# Altium integrated library Oscillators - Crystals.IntLib: 746 symbols (part 15 of 17)
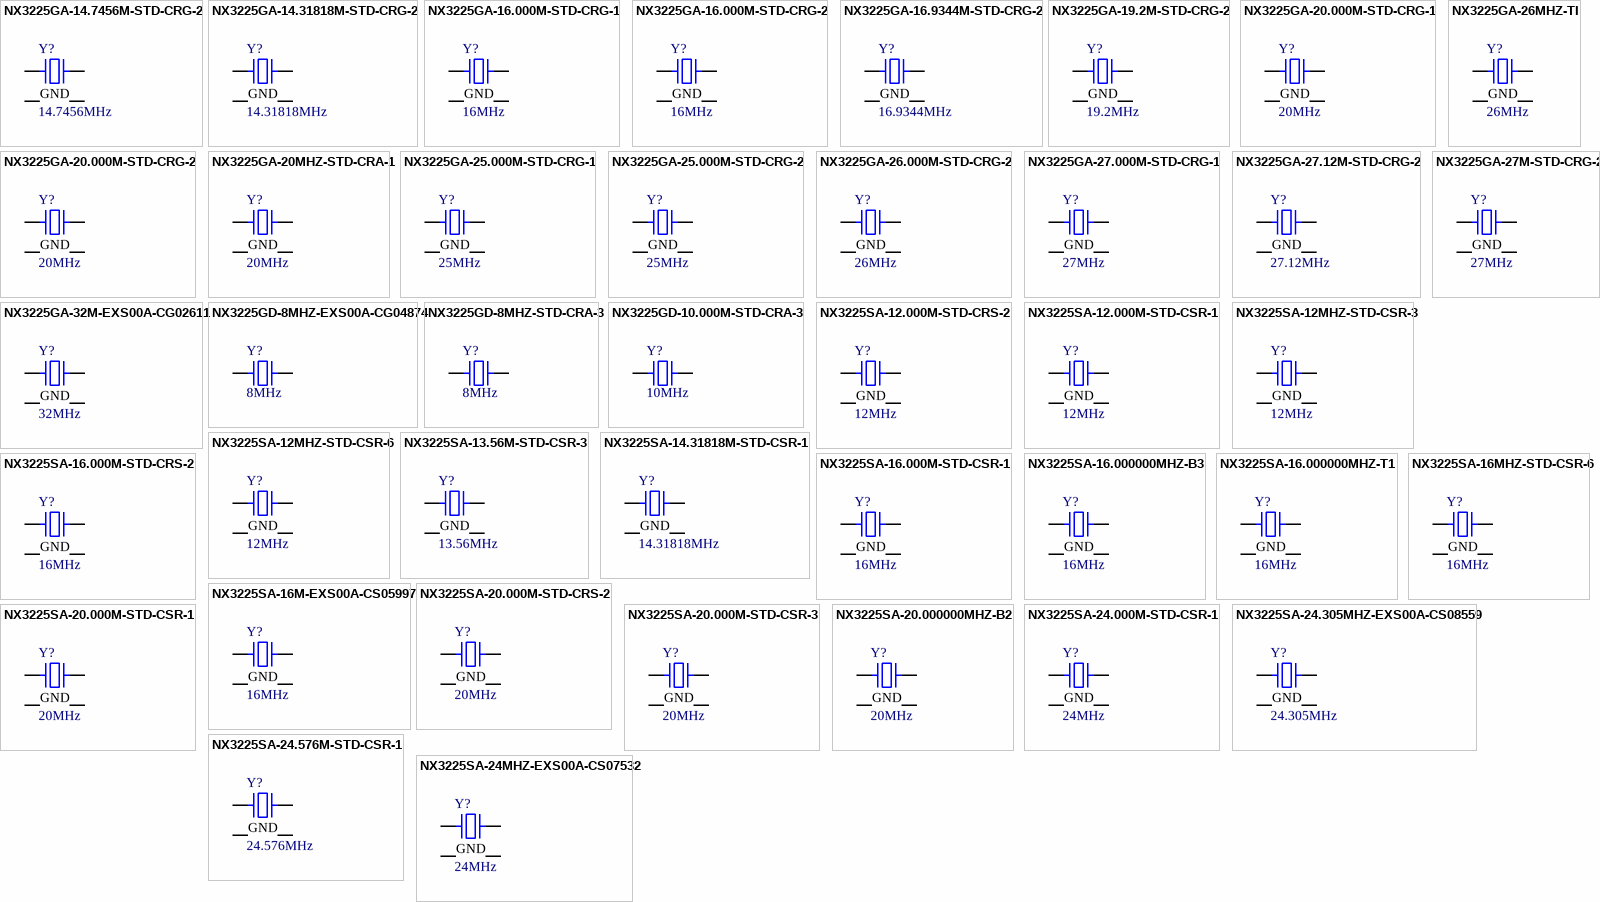
[diagram p32: symbols NX3225GA-14.7456M-STD-CRG-2 to NX3225SA-24MHZ-EXS00A-CS07532]

## NX3225SA-20.000M-STD-CSR-3
designator Y?, comment 20MHz
CRYSTAL 20.0000MHZ 8PF SMD; Part Number: NX3225SA-20.000M-STD-CSR-3; Manufacturer: NDK America, Inc.; ESR (Equivalent Series Resistance): 50 Ohms; Frequency Stability: ±15ppm; Operating Mode: Fundamental; ComponentLink1Description: Datasheet; ComponentLink1URL: //media.digikey.com/pdf/Data%20Sheets/NDK%20PDFs/NX3225SA_STD-CSR-3.pdf; ComponentLink2Description: DigiKey Link; ComponentLink2URL: http://digikey.com/product-detail/en/ndk-america-inc/NX3225SA-20.000M-STD-CSR-3/644-1265-1-ND/5022997; Frequency: 20MHz; Frequency Tolerance: ±15ppm; Height - Seated (Max): 0.024" (0.60mm); LastUpdated: 9/2/2020 1:21:59 AM; Lifecycle Status: Active; Load Capacitance: 8pF; Minimum Order: 1; Mounting Type: Surface Mount; Operating Temperature: -10°C ~ 75°C; Package / Case: 4-SMD, No Lead; Packaging: TapeAndReel; PartId: 563; Part Status: Active; Price: 0.38; Series: NX3225SA; Size / Dimension: 0.126" L x 0.098" W (3.20mm x 2.50mm); Supplier 1: DigiKey; Supplier Part Number 1: 644-1265-1-ND; Type: MHz Crystal; Value: 20MHz
footprint NDK NX3225SA
pins: 1, 2 GND, 3, 4 GND

## NX3225SA-20.000000MHZ-B2
designator Y?, comment 20MHz
CRYSTAL 20.0000MHZ 7.2PF SMD; Part Number: NX3225SA-20.000000MHZ-B2; Manufacturer: NDK America, Inc.; ESR (Equivalent Series Resistance): 80 Ohms; Frequency Stability: ±15ppm; Frequency Tolerance: ±10ppm; Operating Mode: Fundamental; ComponentLink1Description: Datasheet; ComponentLink1URL: //media.digikey.com/pdf/Data Sheets/NDK PDFs/NX3225SA-20.000000MHz-B2.pdf; ComponentLink2Description: DigiKey Link; ComponentLink2URL: http://digikey.com/product-detail/en/ndk-america-inc/NX3225SA-20.000000MHZ-B2/644-1098-1-ND/1468359; Frequency: 20MHz; Height - Seated (Max): 0.028" (0.70mm); LastUpdated: 9/2/2020 1:21:59 AM; Lifecycle Status: Active; Load Capacitance: 7.2pF; Minimum Order: 1; Mounting Type: Surface Mount; Operating Temperature: -30°C ~ 85°C; Package / Case: 4-SMD, No Lead; Packaging: TapeAndReel; PartId: 594; Part Status: Active; Price: 0.47; Series: NX3225SA; Size / Dimension: 0.126" L x 0.098" W (3.20mm x 2.50mm); Supplier 1: DigiKey; Supplier Part Number 1: 644-1098-1-ND; Type: MHz Crystal; Value: 20MHz
footprint NDK NX3225SA
pins: 1, 2 GND, 3, 4 GND

## NX3225SA-24.000M-STD-CSR-1
designator Y?, comment 24MHz
CRYSTAL 24.0000MHZ 8PF SMD; Part Number: NX3225SA-24.000M-STD-CSR-1; Manufacturer: NDK America, Inc.; ESR (Equivalent Series Resistance): 50 Ohms; Frequency Stability: ±15ppm; Operating Mode: Fundamental; ComponentLink1Description: Datasheet; ComponentLink1URL: //media.digikey.com/pdf/Data%20Sheets/NDK%20PDFs/NX3225SA.pdf; ComponentLink2Description: DigiKey Link; ComponentLink2URL: http://digikey.com/product-detail/en/ndk-america-inc/NX3225SA-24.000M-STD-CSR-1/644-1052-1-ND/1128924; Frequency: 24MHz; Frequency Tolerance: ±15ppm; Height - Seated (Max): 0.024" (0.60mm); LastUpdated: 9/2/2020 1:21:59 AM; Lifecycle Status: Active; Load Capacitance: 8pF; Minimum Order: 1; Mounting Type: Surface Mount; Operating Temperature: -10°C ~ 75°C; Package / Case: 4-SMD, No Lead; Packaging: TapeAndReel; PartId: 583; Part Status: Active; Price: 0.38; Series: NX3225SA; Size / Dimension: 0.126" L x 0.098" W (3.20mm x 2.50mm); Supplier 1: DigiKey; Supplier Part Number 1: 644-1052-1-ND; Type: MHz Crystal; Value: 24MHz
footprint NDK NX3225SA
pins: 1, 2 GND, 3, 4 GND

## NX3225SA-24.305MHZ-EXS00A-CS08559
designator Y?, comment 24.305MHz
CRYSTAL 24.305MHZ 7PF SMD; Part Number: NX3225SA-24.305MHZ-EXS00A-CS08559; Manufacturer: NDK America, Inc.; ComponentLink2Description: DigiKey Link; ComponentLink2URL: http://digikey.com/product-detail/en/ndk-america-inc/NX3225SA-24.305MHZ-EXS00A-CS08559/644-1392-1-ND/9172120; Frequency: 24.305MHz; Height - Seated (Max): 0.024" (0.60mm); LastUpdated: 9/2/2020 1:21:59 AM; Lifecycle Status: Active; Load Capacitance: 7pF; Minimum Order: 1; Mounting Type: Surface Mount; Package / Case: 4-SMD, No Lead; Packaging: TapeAndReel; PartId: 573; Part Status: Active; Price: 0.38; Series: NX3225SA; Size / Dimension: 0.126" L x 0.098" W (3.20mm x 2.50mm); Supplier 1: DigiKey; Supplier Part Number 1: 644-1392-1-ND; Type: MHz Crystal; Value: 24.305MHz
footprint NDK NX3225SA
pins: 1, 2 GND, 3, 4 GND

## NX3225SA-24.576M-STD-CSR-1
designator Y?, comment 24.576MHz
CRYSTAL 24.5760MHZ 8PF SMD; Part Number: NX3225SA-24.576M-STD-CSR-1; Manufacturer: NDK America, Inc.; ESR (Equivalent Series Resistance): 50 Ohms; Frequency Stability: ±15ppm; Operating Mode: Fundamental; ComponentLink1Description: Datasheet; ComponentLink1URL: //media.digikey.com/pdf/Data%20Sheets/NDK%20PDFs/NX3225SA.pdf; ComponentLink2Description: DigiKey Link; ComponentLink2URL: http://digikey.com/product-detail/en/ndk-america-inc/NX3225SA-24.576M-STD-CSR-1/644-1053-1-ND/1128925; Frequency: 24.576MHz; Frequency Tolerance: ±15ppm; Height - Seated (Max): 0.024" (0.60mm); LastUpdated: 9/2/2020 1:21:59 AM; Lifecycle Status: Active; Load Capacitance: 8pF; Minimum Order: 1; Mounting Type: Surface Mount; Operating Temperature: -10°C ~ 75°C; Package / Case: 4-SMD, No Lead; Packaging: TapeAndReel; PartId: 605; Part Status: Active; Price: 0.38; Series: NX3225SA; Size / Dimension: 0.126" L x 0.098" W (3.20mm x 2.50mm); Supplier 1: DigiKey; Supplier Part Number 1: 644-1053-1-ND; Type: MHz Crystal; Value: 24.576MHz
footprint NDK NX3225SA
pins: 1, 2 GND, 3, 4 GND

## NX3225SA-24MHZ-EXS00A-CS07532
designator Y?, comment 24MHz
CRYSTAL 24MHZ 9PF SMD; Part Number: NX3225SA-24MHZ-EXS00A-CS07532; Manufacturer: NDK America, Inc.; ESR (Equivalent Series Resistance): 100 Ohms; Operating Mode: Fundamental; ComponentLink2Description: DigiKey Link; ComponentLink2URL: http://digikey.com/product-detail/en/ndk-america-inc/NX3225SA-24MHZ-EXS00A-CS07532/644-1393-1-ND/9172121; Frequency: 24MHz; Height - Seated (Max): 0.024" (0.60mm); LastUpdated: 9/2/2020 1:21:59 AM; Lifecycle Status: Active; Load Capacitance: 9pF; Minimum Order: 1; Mounting Type: Surface Mount; Operating Temperature: -40°C ~ 150°C; Package / Case: 4-SMD, No Lead; Packaging: TapeAndReel; PartId: 571; Part Status: Active; Price: 0.38; Ratings: AEC-Q200; Series: NX3225SA; Size / Dimension: 0.126" L x 0.098" W (3.20mm x 2.50mm); Supplier 1: DigiKey; Supplier Part Number 1: 644-1393-1-ND; Type: MHz Crystal; Value: 24MHz
footprint NDK NX3225SA
pins: 1, 2 GND, 3, 4 GND

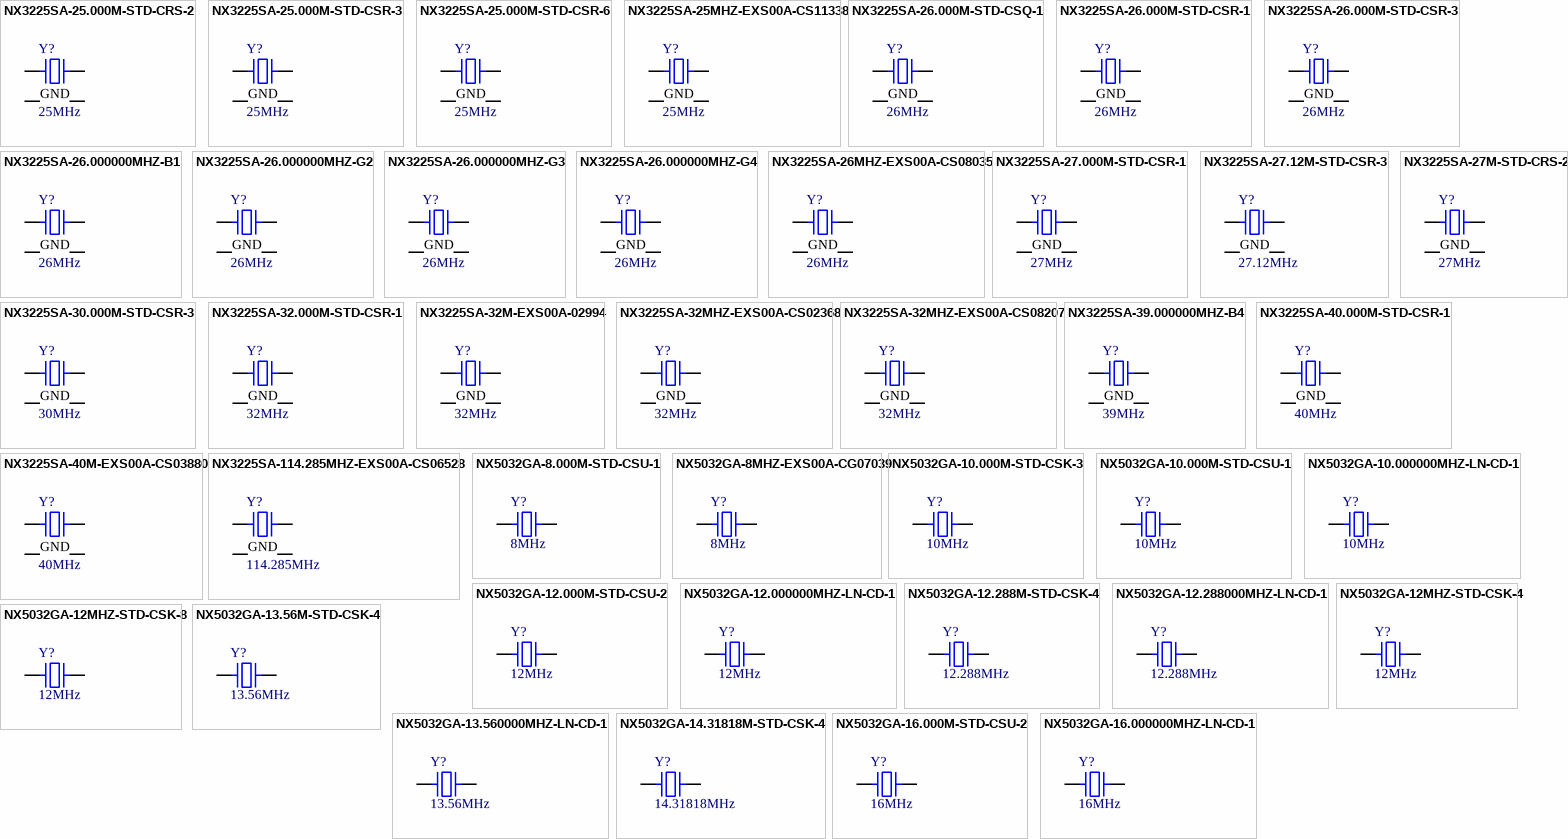
[diagram p16: symbols NX3225SA-25.000M-STD-CRS-2 to NX5032GA-16.000000MHZ-LN-CD-1]

## NX3225SA-25.000M-STD-CRS-2
designator Y?, comment 25MHz
CRYSTAL 25.0000MHZ 8PF SMD; Part Number: NX3225SA-25.000M-STD-CRS-2; Manufacturer: NDK America, Inc.; ESR (Equivalent Series Resistance): 100 Ohms; Frequency Stability: ±50ppm; Frequency Tolerance: ±15ppm; Operating Mode: Fundamental; ComponentLink1Description: Datasheet; ComponentLink1URL: http://www.ndk.com/images/products/catalog/c_NX3225SA-STD-CRS-2_e.pdf; ComponentLink2Description: DigiKey Link; ComponentLink2URL: http://digikey.com/product-detail/en/ndk-america-inc/NX3225SA-25.000M-STD-CRS-2/644-1266-1-ND/5022998; Frequency: 25MHz; Height - Seated (Max): 0.024" (0.60mm); LastUpdated: 9/2/2020 1:21:59 AM; Lifecycle Status: Active; Load Capacitance: 8pF; Minimum Order: 1; Mounting Type: Surface Mount; Operating Temperature: -40°C ~ 125°C; Package / Case: 4-SMD, No Lead; Packaging: TapeAndReel; PartId: 601; Part Status: Active; Price: 0.55; Ratings: AEC-Q200; Series: NX3225SA; Size / Dimension: 0.126" L x 0.098" W (3.20mm x 2.50mm); Supplier 1: DigiKey; Supplier Part Number 1: 644-1266-1-ND; Type: MHz Crystal; Value: 25MHz
footprint NDK NX3225SA
pins: 1, 2 GND, 3, 4 GND

## NX3225SA-25.000M-STD-CSR-3
designator Y?, comment 25MHz
CRYSTAL 25.0000MHZ 8PF SMD; Part Number: NX3225SA-25.000M-STD-CSR-3; Manufacturer: NDK America, Inc.; ESR (Equivalent Series Resistance): 50 Ohms; Frequency Stability: ±15ppm; Operating Mode: Fundamental; ComponentLink1Description: Datasheet; ComponentLink1URL: //media.digikey.com/pdf/Data%20Sheets/NDK%20PDFs/NX3225SA_STD-CSR-3.pdf; ComponentLink2Description: DigiKey Link; ComponentLink2URL: http://digikey.com/product-detail/en/ndk-america-inc/NX3225SA-25.000M-STD-CSR-3/644-1267-1-ND/5022999; Frequency: 25MHz; Frequency Tolerance: ±15ppm; Height - Seated (Max): 0.024" (0.60mm); LastUpdated: 9/2/2020 1:21:59 AM; Lifecycle Status: Active; Load Capacitance: 8pF; Minimum Order: 1; Mounting Type: Surface Mount; Operating Temperature: -10°C ~ 75°C; Package / Case: 4-SMD, No Lead; Packaging: TapeAndReel; PartId: 602; Part Status: Active; Price: 0.55; Series: NX3225SA; Size / Dimension: 0.126" L x 0.098" W (3.20mm x 2.50mm); Supplier 1: DigiKey; Supplier Part Number 1: 644-1267-1-ND; Type: MHz Crystal; Value: 25MHz
footprint NDK NX3225SA
pins: 1, 2 GND, 3, 4 GND

## NX3225SA-25.000M-STD-CSR-6
designator Y?, comment 25MHz
CRYSTAL 25.0000MHZ 8PF SMD; Part Number: NX3225SA-25.000M-STD-CSR-6; Manufacturer: NDK America, Inc.; ESR (Equivalent Series Resistance): 50 Ohms; Frequency Stability: ±25ppm; Frequency Tolerance: ±15ppm; Operating Mode: Fundamental; ComponentLink1Description: Datasheet; ComponentLink1URL: http://www.ndk.com/images/products/catalog/c_NX3225SA_e.pdf; ComponentLink2Description: DigiKey Link; ComponentLink2URL: http://digikey.com/product-detail/en/ndk-america-inc/NX3225SA-25.000M-STD-CSR-6/644-1268-1-ND/5023000; Frequency: 25MHz; Height - Seated (Max): 0.024" (0.60mm); LastUpdated: 9/2/2020 1:21:59 AM; Lifecycle Status: Active; Load Capacitance: 8pF; Minimum Order: 1; Mounting Type: Surface Mount; Operating Temperature: -40°C ~ 85°C; Package / Case: 4-SMD, No Lead; Packaging: TapeAndReel; PartId: 600; Part Status: Active; Price: 0.55; Series: NX3225SA; Size / Dimension: 0.126" L x 0.098" W (3.20mm x 2.50mm); Supplier 1: DigiKey; Supplier Part Number 1: 644-1268-1-ND; Type: MHz Crystal; Value: 25MHz
footprint NDK NX3225SA
pins: 1, 2 GND, 3, 4 GND

## NX3225SA-25MHZ-EXS00A-CS11338
designator Y?, comment 25MHz
CRYSTAL 25MHZ 18PF SMD; Part Number: NX3225SA-25MHZ-EXS00A-CS11338; Manufacturer: NDK America, Inc.; ESR (Equivalent Series Resistance): 50 Ohms; Frequency Stability: ±50ppm; Frequency Tolerance: ±30ppm; Operating Mode: Fundamental; ComponentLink1Description: Datasheet; ComponentLink1URL: //media.digikey.com/pdf/Data%20Sheets/NDK%20PDFs/NX3225SA-25MHZ-EXS00A-CS11338.pdf; ComponentLink2Description: DigiKey Link; ComponentLink2URL: http://digikey.com/product-detail/en/ndk-america-inc/NX3225SA-25MHZ-EXS00A-CS11338/644-1323-1-ND/8275441; Frequency: 25MHz; Height - Seated (Max): 0.024" (0.60mm); LastUpdated: 9/2/2020 1:21:59 AM; Lifecycle Status: Active; Load Capacitance: 18pF; Minimum Order: 1; Mounting Type: Surface Mount; Operating Temperature: -20°C ~ 70°C; Package / Case: 4-SMD, No Lead; Packaging: TapeAndReel; PartId: 569; Part Status: Active; Price: 0.38; Series: NX3225SA; Size / Dimension: 0.126" L x 0.098" W (3.20mm x 2.50mm); Supplier 1: DigiKey; Supplier Part Number 1: 644-1323-1-ND; Type: MHz Crystal; Value: 25MHz
footprint NDK NX3225SA
pins: 1, 2 GND, 3, 4 GND

## NX3225SA-26.000M-STD-CSQ-1
designator Y?, comment 26MHz
CRYSTAL 26.0000MHZ 8PF SMD; Part Number: NX3225SA-26.000M-STD-CSQ-1; Manufacturer: NDK America, Inc.; ESR (Equivalent Series Resistance): 50 Ohms; Frequency Stability: ±10ppm; Load Capacitance: 10pF; Operating Mode: Fundamental; ComponentLink1Description: Datasheet; ComponentLink1URL: http://www.ndk.com/images/products/catalog/c_NX3225SA-STD-CSQ-1_e.pdf; ComponentLink2Description: DigiKey Link; ComponentLink2URL: http://digikey.com/product-detail/en/ndk-america-inc/NX3225SA-26.000M-STD-CSQ-1/644-1269-1-ND/5023001; Frequency: 26MHz; Frequency Tolerance: ±10ppm; Height - Seated (Max): 0.024" (0.60mm); LastUpdated: 9/2/2020 1:21:59 AM; Lifecycle Status: Active; Minimum Order: 1; Mounting Type: Surface Mount; Operating Temperature: -20°C ~ 75°C; Package / Case: 4-SMD, No Lead; Packaging: TapeAndReel; PartId: 566; Part Status: Active; Price: 0.55; Series: NX3225SA; Size / Dimension: 0.126" L x 0.098" W (3.20mm x 2.50mm); Supplier 1: DigiKey; Supplier Part Number 1: 644-1269-1-ND; Type: MHz Crystal; Value: 26MHz
footprint NDK NX3225SA
pins: 1, 2 GND, 3, 4 GND

## NX3225SA-26.000M-STD-CSR-1
designator Y?, comment 26MHz
CRYSTAL 26.0000MHZ 8PF SMD; Part Number: NX3225SA-26.000M-STD-CSR-1; Manufacturer: NDK America, Inc.; ESR (Equivalent Series Resistance): 50 Ohms; Frequency Stability: ±15ppm; Operating Mode: Fundamental; ComponentLink1Description: Datasheet; ComponentLink1URL: //media.digikey.com/pdf/Data%20Sheets/NDK%20PDFs/NX3225SA.pdf; ComponentLink2Description: DigiKey Link; ComponentLink2URL: http://digikey.com/product-detail/en/ndk-america-inc/NX3225SA-26.000M-STD-CSR-1/644-1054-1-ND/1128926; Frequency: 26MHz; Frequency Tolerance: ±15ppm; Height - Seated (Max): 0.024" (0.60mm); LastUpdated: 9/2/2020 1:21:59 AM; Lifecycle Status: Active; Load Capacitance: 8pF; Minimum Order: 1; Mounting Type: Surface Mount; Operating Temperature: -10°C ~ 75°C; Package / Case: 4-SMD, No Lead; Packaging: TapeAndReel; PartId: 599; Part Status: Active; Price: 0.55; Series: NX3225SA; Size / Dimension: 0.126" L x 0.098" W (3.20mm x 2.50mm); Supplier 1: DigiKey; Supplier Part Number 1: 644-1054-1-ND; Type: MHz Crystal; Value: 26MHz
footprint NDK NX3225SA
pins: 1, 2 GND, 3, 4 GND

## NX3225SA-26.000M-STD-CSR-3
designator Y?, comment 26MHz
CRYSTAL 26.0000MHZ 8PF SMD; Part Number: NX3225SA-26.000M-STD-CSR-3; Manufacturer: NDK America, Inc.; ESR (Equivalent Series Resistance): 50 Ohms; Frequency Stability: ±15ppm; Operating Mode: Fundamental; ComponentLink1Description: Datasheet; ComponentLink1URL: //media.digikey.com/pdf/Data%20Sheets/NDK%20PDFs/NX3225SA_STD-CSR-3.pdf; ComponentLink2Description: DigiKey Link; ComponentLink2URL: http://digikey.com/product-detail/en/ndk-america-inc/NX3225SA-26.000M-STD-CSR-3/644-1270-1-ND/5023002; Frequency: 26MHz; Frequency Tolerance: ±15ppm; Height - Seated (Max): 0.024" (0.60mm); LastUpdated: 9/2/2020 1:21:59 AM; Lifecycle Status: Active; Load Capacitance: 8pF; Minimum Order: 1; Mounting Type: Surface Mount; Operating Temperature: -10°C ~ 75°C; Package / Case: 4-SMD, No Lead; Packaging: TapeAndReel; PartId: 568; Part Status: Active; Price: 0.55; Series: NX3225SA; Size / Dimension: 0.126" L x 0.098" W (3.20mm x 2.50mm); Supplier 1: DigiKey; Supplier Part Number 1: 644-1270-1-ND; Type: MHz Crystal; Value: 26MHz
footprint NDK NX3225SA
pins: 1, 2 GND, 3, 4 GND

## NX3225SA-26.000000MHZ-B1
designator Y?, comment 26MHz
CRYSTAL 26.0000MHZ 10PF SMD; Part Number: NX3225SA-26.000000MHZ-B1; Manufacturer: NDK America, Inc.; ESR (Equivalent Series Resistance): 50 Ohms; Frequency Stability: ±10ppm; Operating Mode: Fundamental; ComponentLink1Description: Datasheet; ComponentLink1URL: //media.digikey.com/pdf/Data Sheets/NDK PDFs/NX3225SA-26.000000MHz-B1.pdf; ComponentLink2Description: DigiKey Link; ComponentLink2URL: http://digikey.com/product-detail/en/ndk-america-inc/NX3225SA-26.000000MHZ-B1/644-1101-1-ND/1468362; Frequency: 26MHz; Frequency Tolerance: ±10ppm; Height - Seated (Max): 0.028" (0.70mm); LastUpdated: 9/2/2020 1:21:59 AM; Lifecycle Status: Active; Load Capacitance: 10pF; Minimum Order: 1; Mounting Type: Surface Mount; Operating Temperature: -20°C ~ 70°C; Package / Case: 4-SMD, No Lead; Packaging: TapeAndReel; PartId: 565; Part Status: Active; Price: 0.55; Series: NX3225SA; Size / Dimension: 0.126" L x 0.098" W (3.20mm x 2.50mm); Supplier 1: DigiKey; Supplier Part Number 1: 644-1101-1-ND; Type: MHz Crystal; Value: 26MHz
footprint NDK NX3225SA
pins: 1, 2 GND, 3, 4 GND

## NX3225SA-26.000000MHZ-G2
designator Y?, comment 26MHz
CRYSTAL 26.0000MHZ 10PF SMD; Part Number: NX3225SA-26.000000MHZ-G2; Manufacturer: NDK America, Inc.; ESR (Equivalent Series Resistance): 50 Ohms; Frequency Stability: ±11ppm; Frequency Tolerance: ±10ppm; Operating Mode: Fundamental; ComponentLink1Description: Datasheet; ComponentLink1URL: //media.digikey.com/pdf/Data Sheets/NDK PDFs/NX3225SA-26.000000MHz-G2.pdf; ComponentLink2Description: DigiKey Link; ComponentLink2URL: http://digikey.com/product-detail/en/ndk-america-inc/NX3225SA-26.000000MHZ-G2/644-1109-1-ND/1468370; Frequency: 26MHz; Height - Seated (Max): 0.028" (0.70mm); LastUpdated: 9/2/2020 1:21:59 AM; Lifecycle Status: Active; Load Capacitance: 10pF; Minimum Order: 1; Mounting Type: Surface Mount; Operating Temperature: -20°C ~ 75°C; Package / Case: 4-SMD, No Lead; Packaging: TapeAndReel; PartId: 567; Part Status: Active; Price: 0.55; Series: NX3225SA; Size / Dimension: 0.126" L x 0.098" W (3.20mm x 2.50mm); Supplier 1: DigiKey; Supplier Part Number 1: 644-1109-1-ND; Type: MHz Crystal; Value: 26MHz
footprint NDK NX3225SA
pins: 1, 2 GND, 3, 4 GND

## NX3225SA-26.000000MHZ-G3
designator Y?, comment 26MHz
CRYSTAL 26.0000MHZ 7.36PF SMD; Part Number: NX3225SA-26.000000MHZ-G3; Manufacturer: NDK America, Inc.; ESR (Equivalent Series Resistance): 50 Ohms; Frequency Stability: ±10ppm; Operating Mode: Fundamental; ComponentLink1Description: Datasheet; ComponentLink1URL: //media.digikey.com/pdf/Data Sheets/NDK PDFs/NX3225SA-26.000000MHz-G3.pdf; ComponentLink2Description: DigiKey Link; ComponentLink2URL: http://digikey.com/product-detail/en/ndk-america-inc/NX3225SA-26.000000MHZ-G3/644-1102-1-ND/1468363; Frequency: 26MHz; Frequency Tolerance: ±10ppm; Height - Seated (Max): 0.028" (0.70mm); LastUpdated: 9/2/2020 1:21:59 AM; Lifecycle Status: Active; Load Capacitance: 7.36pF; Minimum Order: 1; Mounting Type: Surface Mount; Operating Temperature: -20°C ~ 85°C; Package / Case: 4-SMD, No Lead; Packaging: TapeAndReel; PartId: 564; Part Status: Active; Price: 0.55; Series: NX3225SA; Size / Dimension: 0.126" L x 0.098" W (3.20mm x 2.50mm); Supplier 1: DigiKey; Supplier Part Number 1: 644-1102-1-ND; Type: MHz Crystal; Value: 26MHz
footprint NDK NX3225SA
pins: 1, 2 GND, 3, 4 GND

## NX3225SA-26.000000MHZ-G4
designator Y?, comment 26MHz
CRYSTAL 26.0000MHZ 10PF SMD; Part Number: NX3225SA-26.000000MHZ-G4; Manufacturer: NDK America, Inc.; ESR (Equivalent Series Resistance): 50 Ohms; Frequency Stability: ±10ppm; Operating Mode: Fundamental; ComponentLink1Description: Datasheet; ComponentLink1URL: //media.digikey.com/pdf/Data Sheets/NDK PDFs/NX3225SA-26.000000MHz-G4.pdf; ComponentLink2Description: DigiKey Link; ComponentLink2URL: http://digikey.com/product-detail/en/ndk-america-inc/NX3225SA-26.000000MHZ-G4/644-1103-1-ND/1468364; Frequency: 26MHz; Frequency Tolerance: ±10ppm; Height - Seated (Max): 0.028" (0.70mm); LastUpdated: 9/2/2020 1:21:59 AM; Lifecycle Status: Active; Load Capacitance: 10pF; Minimum Order: 1; Mounting Type: Surface Mount; Operating Temperature: -20°C ~ 70°C; Package / Case: 4-SMD, No Lead; Packaging: TapeAndReel; PartId: 591; Part Status: Active; Price: 0.47; Series: NX3225SA; Size / Dimension: 0.126" L x 0.098" W (3.20mm x 2.50mm); Supplier 1: DigiKey; Supplier Part Number 1: 644-1103-1-ND; Type: MHz Crystal; Value: 26MHz
footprint NDK NX3225SA
pins: 1, 2 GND, 3, 4 GND

## NX3225SA-26MHZ-EXS00A-CS08035
designator Y?, comment 26MHz
CRYSTAL 26MHZ 10PF SMD; Part Number: NX3225SA-26MHZ-EXS00A-CS08035; Manufacturer: NDK America, Inc.; ESR (Equivalent Series Resistance): 100 Ohms; Operating Mode: Fundamental; ComponentLink2Description: DigiKey Link; ComponentLink2URL: http://digikey.com/product-detail/en/ndk-america-inc/NX3225SA-26MHZ-EXS00A-CS08035/644-1394-1-ND/9172122; Frequency: 26MHz; Height - Seated (Max): 0.024" (0.60mm); LastUpdated: 9/2/2020 1:21:59 AM; Lifecycle Status: Active; Load Capacitance: 10pF; Minimum Order: 1; Mounting Type: Surface Mount; Operating Temperature: -40°C ~ 150°C; Package / Case: 4-SMD, No Lead; Packaging: TapeAndReel; PartId: 580; Part Status: Active; Price: 0.55; Ratings: AEC-Q200; Series: NX3225SA; Size / Dimension: 0.126" L x 0.098" W (3.20mm x 2.50mm); Supplier 1: DigiKey; Supplier Part Number 1: 644-1394-1-ND; Type: MHz Crystal; Value: 26MHz
footprint NDK NX3225SA
pins: 1, 2 GND, 3, 4 GND

## NX3225SA-27.000M-STD-CSR-1
designator Y?, comment 27MHz
CRYSTAL 27.0000MHZ 8PF SMD; Part Number: NX3225SA-27.000M-STD-CSR-1; Manufacturer: NDK America, Inc.; ESR (Equivalent Series Resistance): 50 Ohms; Frequency Stability: ±15ppm; Operating Mode: Fundamental; ComponentLink1Description: Datasheet; ComponentLink1URL: //media.digikey.com/pdf/Data%20Sheets/NDK%20PDFs/NX3225SA.pdf; ComponentLink2Description: DigiKey Link; ComponentLink2URL: http://digikey.com/product-detail/en/ndk-america-inc/NX3225SA-27.000M-STD-CSR-1/644-1055-1-ND/1128927; Frequency: 27MHz; Frequency Tolerance: ±15ppm; Height - Seated (Max): 0.024" (0.60mm); LastUpdated: 9/2/2020 1:21:59 AM; Lifecycle Status: Active; Load Capacitance: 8pF; Minimum Order: 1; Mounting Type: Surface Mount; Operating Temperature: -10°C ~ 75°C; Package / Case: 4-SMD, No Lead; Packaging: TapeAndReel; PartId: 584; Part Status: Active; Price: 0.38; Series: NX3225SA; Size / Dimension: 0.126" L x 0.098" W (3.20mm x 2.50mm); Supplier 1: DigiKey; Supplier Part Number 1: 644-1055-1-ND; Type: MHz Crystal; Value: 27MHz
footprint NDK NX3225SA
pins: 1, 2 GND, 3, 4 GND

## NX3225SA-27.12M-STD-CSR-3
designator Y?, comment 27.12MHz
CRYSTAL 27.1200MHZ 8PF SMD; Part Number: NX3225SA-27.12M-STD-CSR-3; Manufacturer: NDK America, Inc.; ESR (Equivalent Series Resistance): 50 Ohms; Frequency Stability: ±15ppm; Operating Mode: Fundamental; ComponentLink1Description: Datasheet; ComponentLink1URL: //media.digikey.com/pdf/Data%20Sheets/NDK%20PDFs/NX3225SA_STD-CSR-3.pdf; ComponentLink2Description: DigiKey Link; ComponentLink2URL: http://digikey.com/product-detail/en/ndk-america-inc/NX3225SA-27.12M-STD-CSR-3/644-1237-1-ND/4914480; Frequency: 27.12MHz; Frequency Tolerance: ±15ppm; Height - Seated (Max): 0.024" (0.60mm); LastUpdated: 9/2/2020 1:21:59 AM; Lifecycle Status: Active; Load Capacitance: 8pF; Minimum Order: 1; Mounting Type: Surface Mount; Operating Temperature: -10°C ~ 75°C; Package / Case: 4-SMD, No Lead; Packaging: TapeAndReel; PartId: 562; Part Status: Active; Price: 0.38; Series: NX3225SA; Size / Dimension: 0.126" L x 0.098" W (3.20mm x 2.50mm); Supplier 1: DigiKey; Supplier Part Number 1: 644-1237-1-ND; Type: MHz Crystal; Value: 27.12MHz
footprint NDK NX3225SA
pins: 1, 2 GND, 3, 4 GND

## NX3225SA-27M-STD-CRS-2
designator Y?, comment 27MHz
CRYSTAL 27.0000MHZ 8PF SMD; Part Number: NX3225SA-27M-STD-CRS-2; Manufacturer: NDK America, Inc.; ESR (Equivalent Series Resistance): 100 Ohms; Frequency Stability: ±50ppm; Frequency Tolerance: ±15ppm; Operating Mode: Fundamental; ComponentLink1Description: Datasheet; ComponentLink1URL: http://www.ndk.com/images/products/catalog/c_NX3225SA-STD-CRS-2_e.pdf; ComponentLink2Description: DigiKey Link; ComponentLink2URL: http://digikey.com/product-detail/en/ndk-america-inc/NX3225SA-27M-STD-CRS-2/644-1241-1-ND/4914484; Frequency: 27MHz; Height - Seated (Max): 0.024" (0.60mm); LastUpdated: 9/2/2020 1:21:59 AM; Lifecycle Status: Active; Load Capacitance: 8pF; Minimum Order: 1; Mounting Type: Surface Mount; Operating Temperature: -40°C ~ 125°C; Package / Case: 4-SMD, No Lead; Packaging: TapeAndReel; PartId: 576; Part Status: Active; Price: 0.44; Ratings: AEC-Q200; Series: NX3225SA; Size / Dimension: 0.126" L x 0.098" W (3.20mm x 2.50mm); Supplier 1: DigiKey; Supplier Part Number 1: 644-1241-1-ND; Type: MHz Crystal; Value: 27MHz
footprint NDK NX3225SA
pins: 1, 2 GND, 3, 4 GND

## NX3225SA-30.000M-STD-CSR-3
designator Y?, comment 30MHz
CRYSTAL 30.0000MHZ 8PF SMD; Part Number: NX3225SA-30.000M-STD-CSR-3; Manufacturer: NDK America, Inc.; ESR (Equivalent Series Resistance): 50 Ohms; Frequency Stability: ±15ppm; Operating Mode: Fundamental; ComponentLink1Description: Datasheet; ComponentLink1URL: //media.digikey.com/pdf/Data%20Sheets/NDK%20PDFs/NX3225SA_STD-CSR-3.pdf; ComponentLink2Description: DigiKey Link; ComponentLink2URL: http://digikey.com/product-detail/en/ndk-america-inc/NX3225SA-30.000M-STD-CSR-3/644-1271-1-ND/5023003; Frequency: 30MHz; Frequency Tolerance: ±15ppm; Height - Seated (Max): 0.024" (0.60mm); LastUpdated: 9/2/2020 1:21:59 AM; Lifecycle Status: Active; Load Capacitance: 8pF; Minimum Order: 1; Mounting Type: Surface Mount; Operating Temperature: -10°C ~ 75°C; Package / Case: 4-SMD, No Lead; Packaging: TapeAndReel; PartId: 574; Part Status: Active; Price: 0.38; Series: NX3225SA; Size / Dimension: 0.126" L x 0.098" W (3.20mm x 2.50mm); Supplier 1: DigiKey; Supplier Part Number 1: 644-1271-1-ND; Type: MHz Crystal; Value: 30MHz
footprint NDK NX3225SA
pins: 1, 2 GND, 3, 4 GND

## NX3225SA-32.000M-STD-CSR-1
designator Y?, comment 32MHz
CRYSTAL 32.0000MHZ 8PF SMD; Part Number: NX3225SA-32.000M-STD-CSR-1; Manufacturer: NDK America, Inc.; ESR (Equivalent Series Resistance): 50 Ohms; Frequency Stability: ±15ppm; Operating Mode: Fundamental; ComponentLink1Description: Datasheet; ComponentLink1URL: //media.digikey.com/pdf/Data%20Sheets/NDK%20PDFs/NX3225SA.pdf; ComponentLink2Description: DigiKey Link; ComponentLink2URL: http://digikey.com/product-detail/en/ndk-america-inc/NX3225SA-32.000M-STD-CSR-1/644-1056-1-ND/1128928; Frequency: 32MHz; Frequency Tolerance: ±15ppm; Height - Seated (Max): 0.024" (0.60mm); LastUpdated: 9/2/2020 1:21:59 AM; Lifecycle Status: Active; Load Capacitance: 8pF; Minimum Order: 1; Mounting Type: Surface Mount; Operating Temperature: -10°C ~ 75°C; Package / Case: 4-SMD, No Lead; Packaging: TapeAndReel; PartId: 585; Part Status: Active; Price: 0.38; Series: NX3225SA; Size / Dimension: 0.126" L x 0.098" W (3.20mm x 2.50mm); Supplier 1: DigiKey; Supplier Part Number 1: 644-1056-1-ND; Type: MHz Crystal; Value: 32MHz
footprint NDK NX3225SA
pins: 1, 2 GND, 3, 4 GND

## NX3225SA-32M-EXS00A-02994
designator Y?, comment 32MHz
CRYSTAL 32.0000MHZ 16PF SMD; Part Number: NX3225SA-32M-EXS00A-02994; Manufacturer: NDK America, Inc.; ESR (Equivalent Series Resistance): 50 Ohms; Frequency Stability: ±15ppm; Frequency Tolerance: ±10ppm; Operating Mode: Fundamental; ComponentLink1Description: Datasheet; ComponentLink1URL: //media.digikey.com/pdf/Data%20Sheets/NDK%20PDFs/NX3225SA-32M-EXS00A-02994.pdf; ComponentLink2Description: DigiKey Link; ComponentLink2URL: http://digikey.com/product-detail/en/ndk-america-inc/NX3225SA-32M-EXS00A-02994/644-1251-1-ND/5015630; Frequency: 32MHz; Height - Seated (Max): 0.024" (0.60mm); LastUpdated: 9/2/2020 1:21:59 AM; Lifecycle Status: Active; Load Capacitance: 16pF; Minimum Order: 1; Mounting Type: Surface Mount; Operating Temperature: -30°C ~ 85°C; Package / Case: 4-SMD, No Lead; Packaging: TapeAndReel; PartId: 587; Part Status: Active; Price: 0.38; Series: NX3225SA; Size / Dimension: 0.126" L x 0.098" W (3.20mm x 2.50mm); Supplier 1: DigiKey; Supplier Part Number 1: 644-1251-1-ND; Type: MHz Crystal; Value: 32MHz
footprint NDK NX3225SA
pins: 1, 2 GND, 3, 4 GND

## NX3225SA-32MHZ-EXS00A-CS02368
designator Y?, comment 32MHz
CRYSTAL 32.0000MHZ 9PF SMD; Part Number: NX3225SA-32MHZ-EXS00A-CS02368; Manufacturer: NDK America, Inc.; ESR (Equivalent Series Resistance): 50 Ohms; Frequency Stability: ±16ppm; Frequency Tolerance: ±10ppm; Operating Mode: Fundamental; ComponentLink1Description: Datasheet; ComponentLink1URL: //media.digikey.com/pdf/Data%20Sheets/NDK%20PDFs/NX3225SA%20EXS00A-CS02368.pdf; ComponentLink2Description: DigiKey Link; ComponentLink2URL: http://digikey.com/product-detail/en/ndk-america-inc/NX3225SA-32MHZ-EXS00A-CS02368/644-1208-1-ND/3946300; Frequency: 32MHz; Height - Seated (Max): 0.024" (0.60mm); LastUpdated: 9/2/2020 1:21:59 AM; Lifecycle Status: Active; Load Capacitance: 9pF; Minimum Order: 1; Mounting Type: Surface Mount; Operating Temperature: -40°C ~ 85°C; Package / Case: 4-SMD, No Lead; Packaging: TapeAndReel; PartId: 588; Part Status: Active; Price: 0.42; Series: NX3225SA; Size / Dimension: 0.126" L x 0.098" W (3.20mm x 2.50mm); Supplier 1: DigiKey; Supplier Part Number 1: 644-1208-1-ND; Type: MHz Crystal; Value: 32MHz
footprint NDK NX3225SA
pins: 1, 2 GND, 3, 4 GND

## NX3225SA-32MHZ-EXS00A-CS08207
designator Y?, comment 32MHz
CRYSTAL 32MHZ 10PF SMD; Part Number: NX3225SA-32MHZ-EXS00A-CS08207; Manufacturer: NDK America, Inc.; ComponentLink2Description: DigiKey Link; ComponentLink2URL: http://digikey.com/product-detail/en/ndk-america-inc/NX3225SA-32MHZ-EXS00A-CS08207/644-1395-1-ND/9172123; Frequency: 32MHz; Height - Seated (Max): 0.024" (0.60mm); LastUpdated: 9/2/2020 1:21:59 AM; Lifecycle Status: Active; Load Capacitance: 10pF; Minimum Order: 1; Mounting Type: Surface Mount; Package / Case: 4-SMD, No Lead; Packaging: TapeAndReel; PartId: 575; Part Status: Active; Price: 0.42; Series: NX3225SA; Size / Dimension: 0.126" L x 0.098" W (3.20mm x 2.50mm); Supplier 1: DigiKey; Supplier Part Number 1: 644-1395-1-ND; Type: MHz Crystal; Value: 32MHz
footprint NDK NX3225SA
pins: 1, 2 GND, 3, 4 GND

## NX3225SA-39.000000MHZ-B4
designator Y?, comment 39MHz
CRYSTAL 39.0000MHZ 12PF SMD; Part Number: NX3225SA-39.000000MHZ-B4; Manufacturer: NDK America, Inc.; ESR (Equivalent Series Resistance): 50 Ohms; Frequency Stability: ±10ppm; Operating Mode: Fundamental; ComponentLink1Description: Datasheet; ComponentLink1URL: //media.digikey.com/pdf/Data Sheets/NDK PDFs/NX3225SA-39.000000MHz-B4.pdf; ComponentLink2Description: DigiKey Link; ComponentLink2URL: http://digikey.com/product-detail/en/ndk-america-inc/NX3225SA-39.000000MHZ-B4/644-1104-1-ND/1468365; Frequency: 39MHz; Frequency Tolerance: ±10ppm; Height - Seated (Max): 0.028" (0.70mm); LastUpdated: 9/2/2020 1:21:59 AM; Lifecycle Status: Active; Load Capacitance: 12pF; Minimum Order: 1; Mounting Type: Surface Mount; Operating Temperature: -20°C ~ 70°C; Package / Case: 4-SMD, No Lead; Packaging: TapeAndReel; PartId: 595; Part Status: Active; Price: 0.47; Series: NX3225SA; Size / Dimension: 0.126" L x 0.098" W (3.20mm x 2.50mm); Supplier 1: DigiKey; Supplier Part Number 1: 644-1104-1-ND; Type: MHz Crystal; Value: 39MHz
footprint NDK NX3225SA
pins: 1, 2 GND, 3, 4 GND

## NX3225SA-40.000M-STD-CSR-1
designator Y?, comment 40MHz
CRYSTAL 40.0000MHZ 8PF SMD; Part Number: NX3225SA-40.000M-STD-CSR-1; Manufacturer: NDK America, Inc.; ESR (Equivalent Series Resistance): 50 Ohms; Frequency Stability: ±15ppm; Operating Mode: Fundamental; ComponentLink1Description: Datasheet; ComponentLink1URL: //media.digikey.com/pdf/Data%20Sheets/NDK%20PDFs/NX3225SA.pdf; ComponentLink2Description: DigiKey Link; ComponentLink2URL: http://digikey.com/product-detail/en/ndk-america-inc/NX3225SA-40.000M-STD-CSR-1/644-1057-1-ND/1128929; Frequency: 40MHz; Frequency Tolerance: ±15ppm; Height - Seated (Max): 0.024" (0.60mm); LastUpdated: 9/2/2020 1:21:59 AM; Lifecycle Status: Active; Load Capacitance: 8pF; Minimum Order: 1; Mounting Type: Surface Mount; Operating Temperature: -10°C ~ 75°C; Package / Case: 4-SMD, No Lead; Packaging: TapeAndReel; PartId: 589; Part Status: Active; Price: 0.42; Series: NX3225SA; Size / Dimension: 0.126" L x 0.098" W (3.20mm x 2.50mm); Supplier 1: DigiKey; Supplier Part Number 1: 644-1057-1-ND; Type: MHz Crystal; Value: 40MHz
footprint NDK NX3225SA
pins: 1, 2 GND, 3, 4 GND

## NX3225SA-40M-EXS00A-CS03880
designator Y?, comment 40MHz
CRYSTAL 40.0000MHZ 10PF SMD; Part Number: NX3225SA-40M-EXS00A-CS03880; Manufacturer: NDK America, Inc.; ESR (Equivalent Series Resistance): 50 Ohms; Frequency Stability: ±17ppm; Frequency Tolerance: ±10ppm; Operating Mode: Fundamental; ComponentLink1Description: Datasheet; ComponentLink1URL: //media.digikey.com/pdf/Data%20Sheets/NDK%20PDFs/NX3225SA-40M-EXS00A-CS03880.pdf; ComponentLink2Description: DigiKey Link; ComponentLink2URL: http://digikey.com/product-detail/en/ndk-america-inc/NX3225SA-40M-EXS00A-CS03880/644-1249-1-ND/5015628; Frequency: 40MHz; Height - Seated (Max): 0.024" (0.60mm); LastUpdated: 9/2/2020 1:21:59 AM; Lifecycle Status: Active; Load Capacitance: 10pF; Minimum Order: 1; Mounting Type: Surface Mount; Operating Temperature: -40°C ~ 85°C; Package / Case: 4-SMD, No Lead; Packaging: TapeAndReel; PartId: 586; Part Status: Active; Price: 0.38; Series: NX3225SA; Size / Dimension: 0.126" L x 0.098" W (3.20mm x 2.50mm); Supplier 1: DigiKey; Supplier Part Number 1: 644-1249-1-ND; Type: MHz Crystal; Value: 40MHz
footprint NDK NX3225SA
pins: 1, 2 GND, 3, 4 GND

## NX3225SA-114.285MHZ-EXS00A-CS06528
designator Y?, comment 114.285MHz
CRYSTAL 114.2850MHZ 18PF SMD; Part Number: NX3225SA-114.285MHZ-EXS00A-CS06528; Manufacturer: NDK America, Inc.; ESR (Equivalent Series Resistance): 80 Ohms; Frequency Stability: ±20ppm; Operating Mode: 3rd Overtone; ComponentLink1Description: Datasheet; ComponentLink1URL: //media.digikey.com/pdf/Data%20Sheets/NDK%20PDFs/NX3225SA-114.285MHZ-EXS00A-CS06528.pdf; ComponentLink2Description: DigiKey Link; ComponentLink2URL: http://digikey.com/product-detail/en/ndk-america-inc/NX3225SA-114.285MHZ-EXS00A-CS06528/644-1201-1-ND/3894085; Frequency: 114.285MHz; Frequency Tolerance: ±20ppm; Height - Seated (Max): 0.024" (0.60mm); LastUpdated: 9/2/2020 1:21:59 AM; Lifecycle Status: Active; Load Capacitance: 18pF; Minimum Order: 1; Mounting Type: Surface Mount; Operating Temperature: -40°C ~ 85°C; Package / Case: 4-SMD, No Lead; Packaging: TapeAndReel; PartId: 603; Part Status: Active; Price: 2.56; Series: NX3225SA; Size / Dimension: 0.126" L x 0.098" W (3.20mm x 2.50mm); Supplier 1: DigiKey; Supplier Part Number 1: 644-1201-1-ND; Type: MHz Crystal; Value: 114.285MHz
footprint NDK NX3225SA
pins: 1, 2 GND, 3, 4 GND

## NX5032GA-8.000M-STD-CSU-1
designator Y?, comment 8MHz
CRYSTAL 8.0000MHZ 8PF SMD; Part Number: NX5032GA-8.000M-STD-CSU-1; Manufacturer: NDK America, Inc.; ESR (Equivalent Series Resistance): 300 Ohms; Frequency Stability: ±150ppm; Frequency Tolerance: ±50ppm; Operating Mode: Fundamental; ComponentLink1Description: Datasheet; ComponentLink1URL: //media.digikey.com/pdf/Data%20Sheets/NDK%20PDFs/NX5032GA_STD-CSU-1,-2.pdf; ComponentLink2Description: DigiKey Link; ComponentLink2URL: http://digikey.com/product-detail/en/ndk-america-inc/NX5032GA-8.000M-STD-CSU-1/644-1132-1-ND/1788487; Frequency: 8MHz; Height - Seated (Max): 0.059" (1.50mm); LastUpdated: 9/2/2020 1:22:00 AM; Lifecycle Status: Active; Load Capacitance: 8pF; Minimum Order: 1; Mounting Type: Surface Mount; Operating Temperature: -40°C ~ 150°C; Package / Case: 2-SMD, No Lead; Packaging: TapeAndReel; PartId: 627; Part Status: Active; Price: 0.37; Ratings: AEC-Q200; Series: NX5032GA; Size / Dimension: 0.197" L x 0.126" W (5.00mm x 3.20mm); Supplier 1: DigiKey; Supplier Part Number 1: 644-1132-1-ND; Type: MHz Crystal; Value: 8MHz
footprint NDK NX5032GA
pins: 1, 2

## NX5032GA-8MHZ-EXS00A-CG07039
designator Y?, comment 8MHz
CRYSTAL 8MHZ 18PF SMD; Part Number: NX5032GA-8MHZ-EXS00A-CG07039; Manufacturer: NDK America, Inc.; ESR (Equivalent Series Resistance): 300 Ohms; Frequency Stability: ±30ppm; Frequency Tolerance: ±20ppm; Operating Mode: Fundamental; ComponentLink1Description: Datasheet; ComponentLink1URL: //media.digikey.com/pdf/Data%20Sheets/NDK%20PDFs/NX5032GA-8MHz-EXS00A-CG07039.pdf; ComponentLink2Description: DigiKey Link; ComponentLink2URL: http://digikey.com/product-detail/en/ndk-america-inc/NX5032GA-8MHZ-EXS00A-CG07039/644-1318-1-ND/8275436; Frequency: 8MHz; Height - Seated (Max): 0.059" (1.50mm); LastUpdated: 9/2/2020 1:22:00 AM; Lifecycle Status: Active; Load Capacitance: 18pF; Minimum Order: 1; Mounting Type: Surface Mount; Operating Temperature: -40°C ~ 85°C; Package / Case: 2-SMD, No Lead; Packaging: TapeAndReel; PartId: 609; Part Status: Active; Price: 0.37; Series: NX5032GA; Size / Dimension: 0.197" L x 0.126" W (5.00mm x 3.20mm); Supplier 1: DigiKey; Supplier Part Number 1: 644-1318-1-ND; Type: MHz Crystal; Value: 8MHz
footprint NDK NX5032GA
pins: 1, 2

## NX5032GA-10.000M-STD-CSK-3
designator Y?, comment 10MHz
CRYSTAL 10.0000MHZ 8PF SMD; Part Number: NX5032GA-10.000M-STD-CSK-3; Manufacturer: NDK America, Inc.; ESR (Equivalent Series Resistance): 100 Ohms; Frequency Stability: ±30ppm; Frequency Tolerance: ±20ppm; Operating Mode: Fundamental; ComponentLink1Description: Datasheet; ComponentLink1URL: http://www.ndk.com/images/products/catalog/c_NX5032GA_e.pdf; ComponentLink2Description: DigiKey Link; ComponentLink2URL: http://digikey.com/product-detail/en/ndk-america-inc/NX5032GA-10.000M-STD-CSK-3/644-1272-1-ND/5023004; Frequency: 10MHz; Height - Seated (Max): 0.059" (1.50mm); LastUpdated: 9/2/2020 1:21:59 AM; Lifecycle Status: Active; Load Capacitance: 8pF; Minimum Order: 1; Mounting Type: Surface Mount; Operating Temperature: -10°C ~ 70°C; Package / Case: 2-SMD, No Lead; Packaging: TapeAndReel; PartId: 637; Part Status: Active; Price: 0.37; Series: NX5032GA; Size / Dimension: 0.197" L x 0.126" W (5.00mm x 3.20mm); Supplier 1: DigiKey; Supplier Part Number 1: 644-1272-1-ND; Type: MHz Crystal; Value: 10MHz
footprint NDK NX5032GA
pins: 1, 2

## NX5032GA-10.000M-STD-CSU-1
designator Y?, comment 10MHz
CRYSTAL 10.0000MHZ 8PF SMD; Part Number: NX5032GA-10.000M-STD-CSU-1; Manufacturer: NDK America, Inc.; ESR (Equivalent Series Resistance): 150 Ohms; Frequency Stability: ±150ppm; Frequency Tolerance: ±50ppm; Operating Mode: Fundamental; ComponentLink1Description: Datasheet; ComponentLink1URL: //media.digikey.com/pdf/Data%20Sheets/NDK%20PDFs/NX5032GA_STD-CSU-1,-2.pdf; ComponentLink2Description: DigiKey Link; ComponentLink2URL: http://digikey.com/product-detail/en/ndk-america-inc/NX5032GA-10.000M-STD-CSU-1/644-1133-1-ND/1788488; Frequency: 10MHz; Height - Seated (Max): 0.059" (1.50mm); LastUpdated: 9/2/2020 1:22:00 AM; Lifecycle Status: Active; Load Capacitance: 8pF; Minimum Order: 1; Mounting Type: Surface Mount; Operating Temperature: -40°C ~ 150°C; Package / Case: 2-SMD, No Lead; Packaging: TapeAndReel; PartId: 616; Part Status: Active; Price: 0.63; Ratings: AEC-Q200; Series: NX5032GA; Size / Dimension: 0.197" L x 0.126" W (5.00mm x 3.20mm); Supplier 1: DigiKey; Supplier Part Number 1: 644-1133-1-ND; Type: MHz Crystal; Value: 10MHz
footprint NDK NX5032GA
pins: 1, 2

## NX5032GA-10.000000MHZ-LN-CD-1
designator Y?, comment 10MHz
CRYSTAL 10.0000MHZ 8PF SMD; Part Number: NX5032GA-10.000000MHZ-LN-CD-1; Manufacturer: NDK America, Inc.; ESR (Equivalent Series Resistance): 120 Ohms; Frequency Stability: ±50ppm; Operating Mode: Fundamental; ComponentLink1Description: Datasheet; ComponentLink1URL: //media.digikey.com/pdf/Data%20Sheets/NDK%20PDFs/NX5032GA.pdf; ComponentLink2Description: DigiKey Link; ComponentLink2URL: http://digikey.com/product-detail/en/ndk-america-inc/NX5032GA-10.000000MHZ-LN-CD-1/644-1033-1-ND/1128905; Frequency: 10MHz; Frequency Tolerance: ±50ppm; Height - Seated (Max): 0.059" (1.50mm); LastUpdated: 9/2/2020 1:22:00 AM; Lifecycle Status: Active; Load Capacitance: 8pF; Minimum Order: 1; Mounting Type: Surface Mount; Operating Temperature: -10°C ~ 70°C; Package / Case: 2-SMD, No Lead; Packaging: TapeAndReel; PartId: 615; Part Status: Active; Price: 0.32; Series: NX5032GA; Size / Dimension: 0.197" L x 0.126" W (5.00mm x 3.20mm); Supplier 1: DigiKey; Supplier Part Number 1: 644-1033-1-ND; Type: MHz Crystal; Value: 10MHz
footprint NDK NX5032GA
pins: 1, 2

## NX5032GA-12.000M-STD-CSU-2
designator Y?, comment 12MHz
CRYSTAL 12.0000MHZ 8PF SMD; Part Number: NX5032GA-12.000M-STD-CSU-2; Manufacturer: NDK America, Inc.; ESR (Equivalent Series Resistance): 150 Ohms; Frequency Stability: ±150ppm; Frequency Tolerance: ±50ppm; Operating Mode: Fundamental; ComponentLink1Description: Datasheet; ComponentLink1URL: //media.digikey.com/pdf/Data%20Sheets/NDK%20PDFs/NX5032GA_STD-CSU-1,-2.pdf; ComponentLink2Description: DigiKey Link; ComponentLink2URL: http://digikey.com/product-detail/en/ndk-america-inc/NX5032GA-12.000M-STD-CSU-2/644-1134-1-ND/1788489; Frequency: 12MHz; Height - Seated (Max): 0.059" (1.50mm); LastUpdated: 9/2/2020 1:22:00 AM; Lifecycle Status: Active; Load Capacitance: 8pF; Minimum Order: 1; Mounting Type: Surface Mount; Operating Temperature: -40°C ~ 150°C; Package / Case: 2-SMD, No Lead; Packaging: TapeAndReel; PartId: 632; Part Status: Active; Price: 0.63; Ratings: AEC-Q200; Series: NX5032GA; Size / Dimension: 0.197" L x 0.126" W (5.00mm x 3.20mm); Supplier 1: DigiKey; Supplier Part Number 1: 644-1134-1-ND; Type: MHz Crystal; Value: 12MHz
footprint NDK NX5032GA
pins: 1, 2

## NX5032GA-12.000000MHZ-LN-CD-1
designator Y?, comment 12MHz
CRYSTAL 12.0000MHZ 8PF SMD; Part Number: NX5032GA-12.000000MHZ-LN-CD-1; Manufacturer: NDK America, Inc.; ESR (Equivalent Series Resistance): 120 Ohms; Frequency Stability: ±50ppm; Operating Mode: Fundamental; ComponentLink1Description: Datasheet; ComponentLink1URL: //media.digikey.com/pdf/Data%20Sheets/NDK%20PDFs/NX5032GA.pdf; ComponentLink2Description: DigiKey Link; ComponentLink2URL: http://digikey.com/product-detail/en/ndk-america-inc/NX5032GA-12.000000MHZ-LN-CD-1/644-1034-1-ND/1128906; Frequency: 12MHz; Frequency Tolerance: ±50ppm; Height - Seated (Max): 0.059" (1.50mm); LastUpdated: 9/2/2020 1:22:00 AM; Lifecycle Status: Active; Load Capacitance: 8pF; Minimum Order: 1; Mounting Type: Surface Mount; Operating Temperature: -10°C ~ 70°C; Package / Case: 2-SMD, No Lead; Packaging: TapeAndReel; PartId: 625; Part Status: Active; Price: 0.32; Series: NX5032GA; Size / Dimension: 0.197" L x 0.126" W (5.00mm x 3.20mm); Supplier 1: DigiKey; Supplier Part Number 1: 644-1034-1-ND; Type: MHz Crystal; Value: 12MHz
footprint NDK NX5032GA
pins: 1, 2

## NX5032GA-12.288M-STD-CSK-4
designator Y?, comment 12.288MHz
CRYSTAL 12.2880MHZ 8PF SMD; Part Number: NX5032GA-12.288M-STD-CSK-4; Manufacturer: NDK America, Inc.; ESR (Equivalent Series Resistance): 100 Ohms; Frequency Stability: ±30ppm; Frequency Tolerance: ±20ppm; Operating Mode: Fundamental; ComponentLink1Description: Datasheet; ComponentLink1URL: http://www.ndk.com/images/products/catalog/c_NX5032GA_e.pdf; ComponentLink2Description: DigiKey Link; ComponentLink2URL: http://digikey.com/product-detail/en/ndk-america-inc/NX5032GA-12.288M-STD-CSK-4/644-1243-1-ND/4914486; Frequency: 12.288MHz; Height - Seated (Max): 0.059" (1.50mm); LastUpdated: 9/2/2020 1:22:00 AM; Lifecycle Status: Active; Load Capacitance: 8pF; Minimum Order: 1; Mounting Type: Surface Mount; Operating Temperature: -10°C ~ 70°C; Package / Case: 2-SMD, No Lead; Packaging: TapeAndReel; PartId: 619; Part Status: Active; Price: 0.37; Series: NX5032GA; Size / Dimension: 0.197" L x 0.126" W (5.00mm x 3.20mm); Supplier 1: DigiKey; Supplier Part Number 1: 644-1243-1-ND; Type: MHz Crystal; Value: 12.288MHz
footprint NDK NX5032GA
pins: 1, 2

## NX5032GA-12.288000MHZ-LN-CD-1
designator Y?, comment 12.288MHz
CRYSTAL 12.2880MHZ 8PF SMD; Part Number: NX5032GA-12.288000MHZ-LN-CD-1; Manufacturer: NDK America, Inc.; ESR (Equivalent Series Resistance): 120 Ohms; Frequency Stability: ±50ppm; Operating Mode: Fundamental; ComponentLink1Description: Datasheet; ComponentLink1URL: //media.digikey.com/pdf/Data%20Sheets/NDK%20PDFs/NX5032GA.pdf; ComponentLink2Description: DigiKey Link; ComponentLink2URL: http://digikey.com/product-detail/en/ndk-america-inc/NX5032GA-12.288000MHZ-LN-CD-1/644-1035-1-ND/1128907; Frequency: 12.288MHz; Frequency Tolerance: ±50ppm; Height - Seated (Max): 0.059" (1.50mm); LastUpdated: 9/2/2020 1:22:00 AM; Lifecycle Status: Active; Load Capacitance: 8pF; Minimum Order: 1; Mounting Type: Surface Mount; Operating Temperature: -10°C ~ 70°C; Package / Case: 2-SMD, No Lead; Packaging: TapeAndReel; PartId: 611; Part Status: Active; Price: 0.32; Series: NX5032GA; Size / Dimension: 0.197" L x 0.126" W (5.00mm x 3.20mm); Supplier 1: DigiKey; Supplier Part Number 1: 644-1035-1-ND; Type: MHz Crystal; Value: 12.288MHz
footprint NDK NX5032GA
pins: 1, 2

## NX5032GA-12MHZ-STD-CSK-4
designator Y?, comment 12MHz
CRYSTAL 12.0000MHZ 8PF SMD; Part Number: NX5032GA-12MHZ-STD-CSK-4; Manufacturer: NDK America, Inc.; ESR (Equivalent Series Resistance): 100 Ohms; Frequency Stability: ±30ppm; Frequency Tolerance: ±20ppm; Operating Mode: Fundamental; ComponentLink1Description: Datasheet; ComponentLink1URL: http://www.ndk.com/images/products/catalog/c_NX5032GA_e.pdf; ComponentLink2Description: DigiKey Link; ComponentLink2URL: http://digikey.com/product-detail/en/ndk-america-inc/NX5032GA-12MHZ-STD-CSK-4/644-1185-1-ND/3125574; Frequency: 12MHz; Height - Seated (Max): 0.059" (1.50mm); LastUpdated: 9/2/2020 1:22:00 AM; Lifecycle Status: Active; Load Capacitance: 8pF; Minimum Order: 1; Mounting Type: Surface Mount; Operating Temperature: -10°C ~ 70°C; Package / Case: 2-SMD, No Lead; Packaging: TapeAndReel; PartId: 613; Part Status: Active; Price: 0.38; Series: NX5032GA; Size / Dimension: 0.197" L x 0.126" W (5.00mm x 3.20mm); Supplier 1: DigiKey; Supplier Part Number 1: 644-1185-1-ND; Type: MHz Crystal; Value: 12MHz
footprint NDK NX5032GA
pins: 1, 2

## NX5032GA-12MHZ-STD-CSK-8
designator Y?, comment 12MHz
CRYSTAL 12.0000MHZ 8PF SMD; Part Number: NX5032GA-12MHZ-STD-CSK-8; Manufacturer: NDK America, Inc.; ESR (Equivalent Series Resistance): 120 Ohms; Frequency Stability: ±50ppm; Frequency Tolerance: ±30ppm; Operating Mode: Fundamental; ComponentLink1Description: Datasheet; ComponentLink1URL: http://www.ndk.com/images/products/catalog/c_NX5032GA-STD-CSK-8_e.pdf; ComponentLink2Description: DigiKey Link; ComponentLink2URL: http://digikey.com/product-detail/en/ndk-america-inc/NX5032GA-12MHZ-STD-CSK-8/644-1186-1-ND/3125575; Frequency: 12MHz; Height - Seated (Max): 0.059" (1.50mm); LastUpdated: 9/2/2020 1:22:00 AM; Lifecycle Status: Active; Load Capacitance: 8pF; Minimum Order: 1; Mounting Type: Surface Mount; Operating Temperature: -40°C ~ 85°C; Package / Case: 2-SMD, No Lead; Packaging: TapeAndReel; PartId: 629; Part Status: Active; Price: 0.38; Series: NX5032GA; Size / Dimension: 0.197" L x 0.126" W (5.00mm x 3.20mm); Supplier 1: DigiKey; Supplier Part Number 1: 644-1186-1-ND; Type: MHz Crystal; Value: 12MHz
footprint NDK NX5032GA
pins: 1, 2

## NX5032GA-13.56M-STD-CSK-4
designator Y?, comment 13.56MHz
CRYSTAL 13.5600MHZ 8PF SMD; Part Number: NX5032GA-13.56M-STD-CSK-4; Manufacturer: NDK America, Inc.; ESR (Equivalent Series Resistance): 100 Ohms; Frequency Stability: ±30ppm; Frequency Tolerance: ±20ppm; Operating Mode: Fundamental; ComponentLink1Description: Datasheet; ComponentLink1URL: http://www.ndk.com/images/products/catalog/c_NX5032GA_e.pdf; ComponentLink2Description: DigiKey Link; ComponentLink2URL: http://digikey.com/product-detail/en/ndk-america-inc/NX5032GA-13.56M-STD-CSK-4/644-1244-1-ND/4914487; Frequency: 13.56MHz; Height - Seated (Max): 0.059" (1.50mm); LastUpdated: 9/2/2020 1:22:00 AM; Lifecycle Status: Active; Load Capacitance: 8pF; Minimum Order: 1; Mounting Type: Surface Mount; Operating Temperature: -10°C ~ 70°C; Package / Case: 2-SMD, No Lead; Packaging: TapeAndReel; PartId: 607; Part Status: Active; Price: 0.37; Series: NX5032GA; Size / Dimension: 0.197" L x 0.126" W (5.00mm x 3.20mm); Supplier 1: DigiKey; Supplier Part Number 1: 644-1244-1-ND; Type: MHz Crystal; Value: 13.56MHz
footprint NDK NX5032GA
pins: 1, 2

## NX5032GA-13.560000MHZ-LN-CD-1
designator Y?, comment 13.56MHz
CRYSTAL 13.5600MHZ 8PF SMD; Part Number: NX5032GA-13.560000MHZ-LN-CD-1; Manufacturer: NDK America, Inc.; ESR (Equivalent Series Resistance): 120 Ohms; Frequency Stability: ±50ppm; Operating Mode: Fundamental; ComponentLink1Description: Datasheet; ComponentLink1URL: //media.digikey.com/pdf/Data%20Sheets/NDK%20PDFs/NX5032GA.pdf; ComponentLink2Description: DigiKey Link; ComponentLink2URL: http://digikey.com/product-detail/en/ndk-america-inc/NX5032GA-13.560000MHZ-LN-CD-1/644-1036-1-ND/1128908; Frequency: 13.56MHz; Frequency Tolerance: ±50ppm; Height - Seated (Max): 0.059" (1.50mm); LastUpdated: 9/2/2020 1:22:00 AM; Lifecycle Status: Active; Load Capacitance: 8pF; Minimum Order: 1; Mounting Type: Surface Mount; Operating Temperature: -10°C ~ 70°C; Package / Case: 2-SMD, No Lead; Packaging: TapeAndReel; PartId: 612; Part Status: Active; Price: 0.32; Series: NX5032GA; Size / Dimension: 0.197" L x 0.126" W (5.00mm x 3.20mm); Supplier 1: DigiKey; Supplier Part Number 1: 644-1036-1-ND; Type: MHz Crystal; Value: 13.56MHz
footprint NDK NX5032GA
pins: 1, 2

## NX5032GA-14.31818M-STD-CSK-4
designator Y?, comment 14.31818MHz
CRYSTAL 14.31818MHZ 8PF SMD; Part Number: NX5032GA-14.31818M-STD-CSK-4; Manufacturer: NDK America, Inc.; ESR (Equivalent Series Resistance): 100 Ohms; Frequency Stability: ±30ppm; Frequency Tolerance: ±20ppm; Operating Mode: Fundamental; ComponentLink1Description: Datasheet; ComponentLink1URL: http://www.ndk.com/images/products/catalog/c_NX5032GA_e.pdf; ComponentLink2Description: DigiKey Link; ComponentLink2URL: http://digikey.com/product-detail/en/ndk-america-inc/NX5032GA-14.31818M-STD-CSK-4/644-1245-1-ND/4914488; Frequency: 14.31818MHz; Height - Seated (Max): 0.059" (1.50mm); LastUpdated: 9/2/2020 1:22:00 AM; Lifecycle Status: Active; Load Capacitance: 8pF; Minimum Order: 1; Mounting Type: Surface Mount; Operating Temperature: -10°C ~ 70°C; Package / Case: 2-SMD, No Lead; Packaging: TapeAndReel; PartId: 610; Part Status: Active; Price: 0.37; Series: NX5032GA; Size / Dimension: 0.197" L x 0.126" W (5.00mm x 3.20mm); Supplier 1: DigiKey; Supplier Part Number 1: 644-1245-1-ND; Type: MHz Crystal; Value: 14.31818MHz
footprint NDK NX5032GA
pins: 1, 2